# Altium footprint library 8654DD41-BF37-4DC5-AC5C-924E3A02F56E_FP-103AT-2-MFG.PcbLib: 1 footprints
Each footprint in its own frame and in the unit in brackets; x right, y up, seen from the top. Pads: shape width x height; smd on the part's side, far side on the other; paste and mask are expansions set on the pad; w line width, h text height; cw(c..) or ccw(c..) is an arc to the next point about the centre after c.
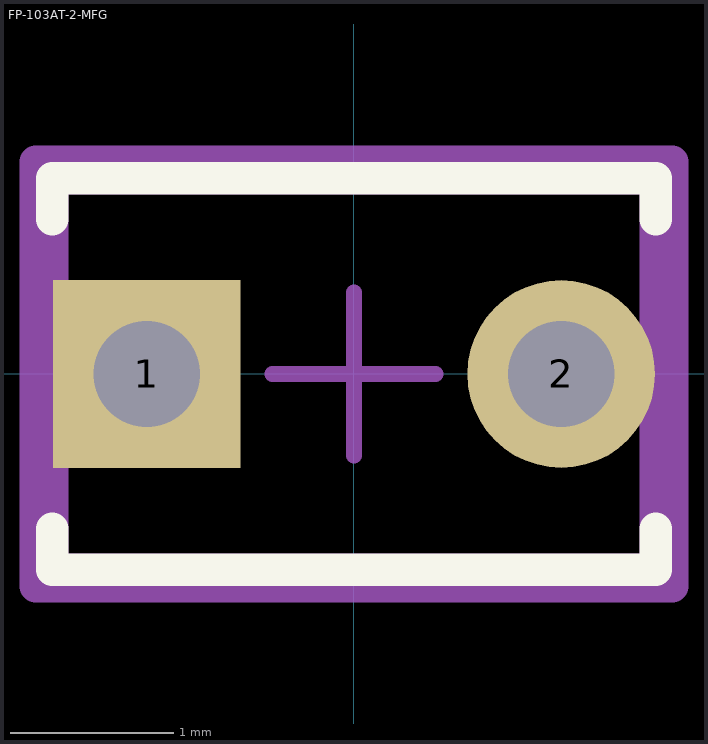
[diagram p0: the footprint, top view; thin cyan lines are the x and y axes]

## FP-103AT-2-MFG [mm]
pads (2):
  rect 1.15x1.15 hole 0.65 paste-1000 mask+0: 1(-1.27,0)
  round 1.15 hole 0.65 paste-1000 mask+0: 2(1.27,0)
Top Overlay:
  lines w0.2: -1.85,-0.95 -1.85,-1.2 1.85,-1.2 1.85,-0.95 ; -1.85,0.95 -1.85,1.2 1.85,1.2 1.85,0.95
Top Assembly:
  lines w0.2: -1.95,-1.3 1.95,-1.3 1.95,1.3 -1.95,1.3 -1.95,-1.3
  text ".Designator" at 0,0.188 h1
Top 3D Body:
  lines w0.2: -1.85,-1.2 1.85,-1.2 1.85,1.2 -1.85,1.2 -1.85,-1.2
Top Courtyard:
  lines w0.2: -1.95,-1.3 1.95,-1.3 1.95,1.3 -1.95,1.3 -1.95,-1.3
Top Component Center:
  lines w0.1: -0.5,0 0.5,0 ; 0,-0.5 0,0.5
3D body "Res_Semitec_103AT-2_eec.STEP": height 0.25, standoff 0, extent -1.95,-1.3 1.95,1.3